# Altium schematic symbol library IRF7105TRPBF.SchLib: 1 symbol
Pins are listed as number, name and electrical type; pins without a type are passive.

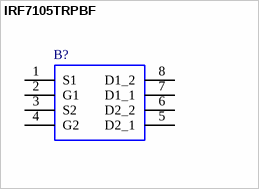
[diagram p0: symbol IRF7105TRPBF]

## IRF7105TRPBF
designator B?
Infineon IRF7105TRPBF Dual N/P-Channel MOSFET, 2.3 A, 3.5 A, 25 V HEXFET, 8-Pin SOIC; Geometry.Height: 1.75mm; Mouser Part Number: 942-IRF7105TRPBF; Mouser Price/Stock: https://www.mouser.co.uk/ProductDetail/Infineon-IR/IRF7105TRPBF?qs=9%252BKlkBgLFf2ZeGr7NayKjg%3D%3D; Manufacturer_Name: Infineon; Manufacturer_Part_Number: IRF7105TRPBF; Datasheet Link: https://www.infineon.com/dgdl/irf7105pbf.pdf?fileId=5546d462533600a4015355f118ff1ad0
footprint SOIC127P600X175-8N
pins: 1 S1, 2 G1, 3 S2, 4 G2, 5 D2_1, 6 D2_2, 7 D1_1, 8 D1_2